# Altium footprint library ADP_Icons.PcbLib: 7 footprints
Each footprint in its own frame and in the unit in brackets; x right, y up, seen from the top. Pads: shape width x height; smd on the part's side, far side on the other; paste and mask are expansions set on the pad; w line width, h text height; cw(c..) or ccw(c..) is an arc to the next point about the centre after c.
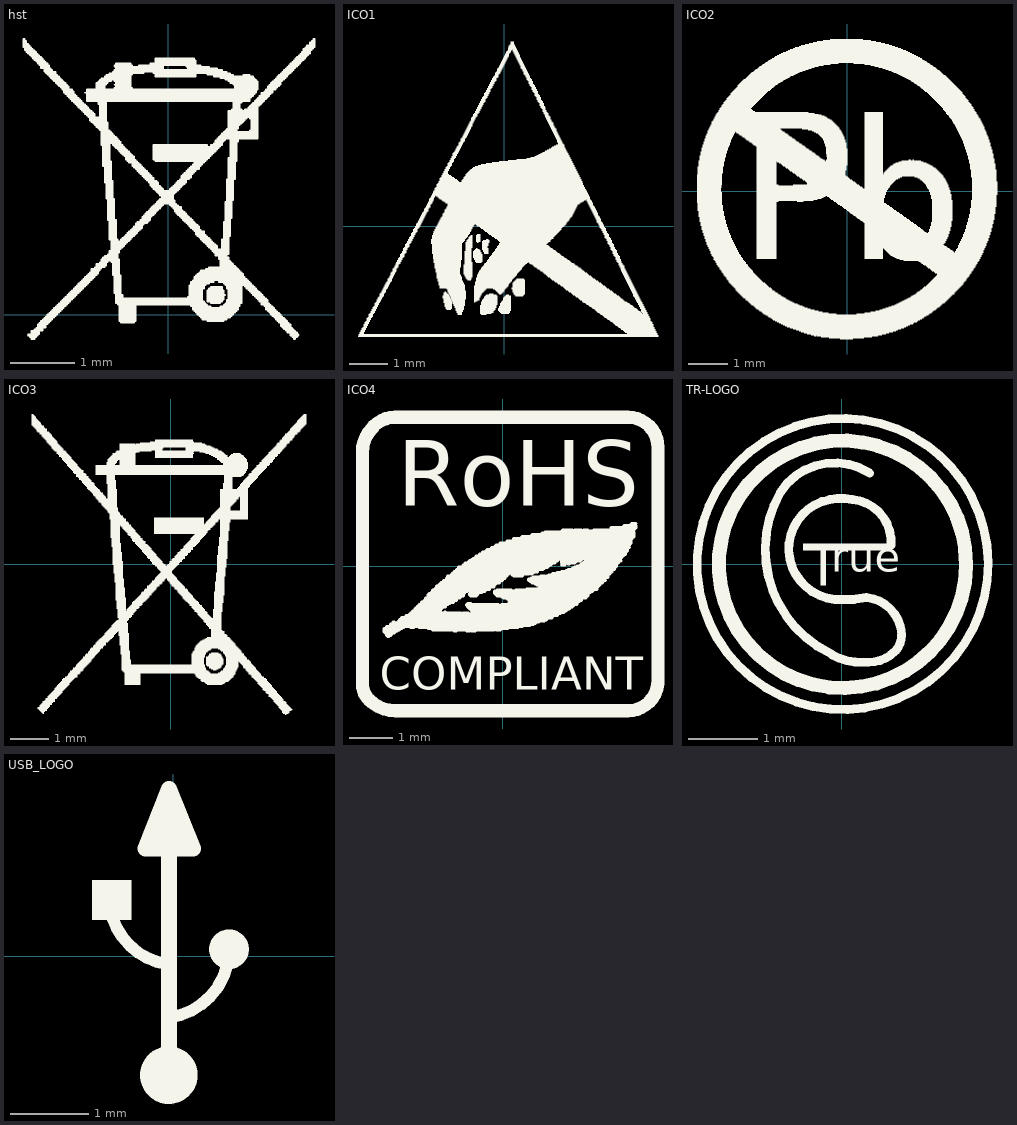
[diagram p0: the footprints below, top view; thin cyan lines are the x and y axes]

## hst [mm]
Top Overlay:
  drawing of 1279 lines, arcs and shapes, not listed

## ICO1 [mm]
Top Overlay:
  drawing of 990 lines, arcs and shapes, not listed

## ICO2 [mm]
Top Overlay:
  drawing of 960 lines, arcs and shapes, not listed

## ICO3 [mm]
Top Overlay:
  drawing of 1026 lines, arcs and shapes, not listed

## ICO4 [mm]
Top Overlay:
  drawing of 1541 lines, arcs and shapes, not listed
  text "COMPLIANT" at -2.845,-2.869 h0.76
  text "RoHS" at -2.438,1.398 h1.52

## TR-LOGO [mm]
Top Overlay:
  rectangle: -0.559,0.203 0.737,0.305
  rectangle: -0.305,-0.305 -0.229,0.229
  lines w0.127: -0.762,0.305 ccw(c-0.025,0.229) -0.102,-0.508 0.178,-0.508 ; -0.758,0.31 cw(c-0.046,0.234) -0.172,0.938 cw(c-0.006,0.112) 0.152,0.94 cw(c0.1,0.326) 0.714,0.279 ; -0.356,-1.182 cw(c0.572,0.216) -0.889,1.041 cw(c-0.102,0.533) 0.406,1.321 ; -0.356,-1.182 -0.132,-1.311 ccw(c0.267,-0.622) 0.306,-1.417 0.39,-1.417 ccw(c0.39,-0.873) 0.775,-1.257 ; 0.152,-0.508 0.356,-0.48 cw(c0.305,-1.041) 0.849,-0.893 cw(c0.49,-1.013) 0.777,-1.259 ; 2.107,-0.236 cw(c0.013,0.005) 2.108,-0.229
  lines w0.203: 1.803,-0.025 cw(c0.013,0.001) 1.803,0
  text "rue" at -0.152,-0.254 h0.75

## USB_LOGO [mm]
height 10.16
Top Overlay:
  circle w0.254: c0.716,0.09 r0.127
  circle w0.381: c-0.053,-1.518 r0.178
  rectangle: -1.039,0.463 -0.529,0.973
  lines w0.152: -0.779,0.504 ccw(c0.068,0.774) -0.051,-0.107 ; -0.051,-0.784 ccw(c-0.171,0.097) 0.717,0.046
  lines w0.203: -0.051,-1.384 -0.051,2.139 ; -0.051,1.375 -0.051,2.139 ; -0.051,2.139 0.259,1.377 -0.351,1.377 -0.051,2.139
  lines w0.381: -0.051,1.479 -0.051,1.58